# Altium footprint library logics.PcbLib: 3 footprints
Each footprint in its own frame and in the unit in brackets; x right, y up, seen from the top. Pads: shape width x height; smd on the part's side, far side on the other; paste and mask are expansions set on the pad; w line width, h text height; cw(c..) or ccw(c..) is an arc to the next point about the centre after c.
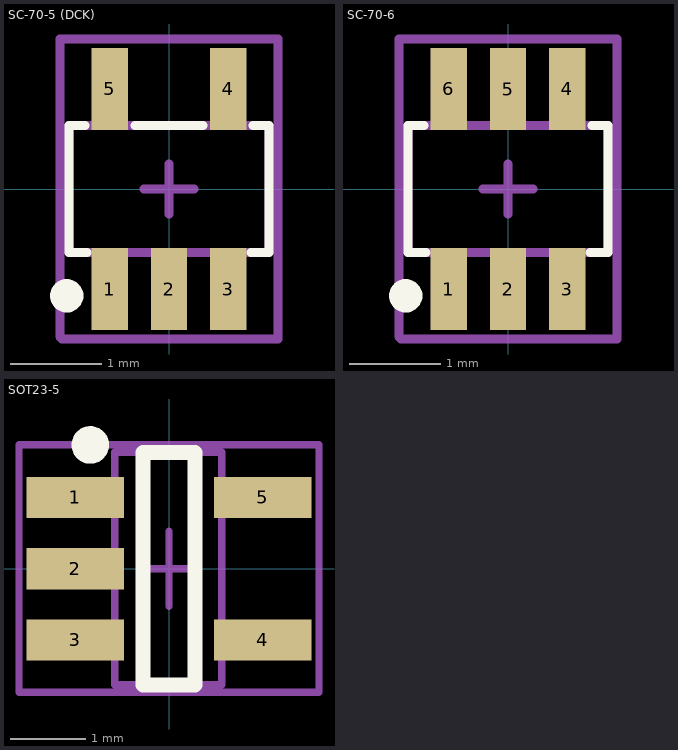
[diagram p0: the footprints below, top view; thin cyan lines are the x and y axes]

## SC-70-5 (DCK) [mm]
pads (5):
  rect 0.4x0.9 smd mask+0.05: 1(-0.65,-1.1) 2(0,-1.1) 3(0.65,-1.1) 4(0.65,1.1) 5(-0.65,1.1)
Top Overlay:
  circle w0.254: c-1.125,-1.175 r0.056
  lines w0.1: -0.925,0.7 -1.1,0.7 -1.1,-0.7 -0.9,-0.7 ; -0.375,0.7 0.375,0.7 ; 0.9,-0.7 1.1,-0.7 1.1,0.7 0.925,0.7
Mechanical 13:
  lines w0.1: -1.1,-0.7 1.1,-0.7 1.1,0.7 -1.1,0.7 -1.1,-0.7
Mechanical 15:
  lines w0.1: -0.275,0 0.275,0 ; 0,-0.275 0,0.275 ; -1.2,-1.625 -1.2,1.65 1.2,1.65 1.2,-1.65 -1.175,-1.65 -1.2,-1.625
3D body: height 1.1, standoff 0, extent -1.1,-0.7 1.1,0.7

## SC-70-6 [mm]
pads (6):
  rect 0.4x0.9 smd mask+0.05: 1(-0.65,-1.1) 2(0,-1.1) 3(0.65,-1.1) 4(0.65,1.1) 5(0,1.1) 6(-0.65,1.1)
Top Overlay:
  circle w0.254: c-1.125,-1.175 r0.056
  lines w0.1: -0.925,0.7 -1.1,0.7 -1.1,-0.7 -0.9,-0.7 ; 0.9,-0.7 1.1,-0.7 1.1,0.7 0.925,0.7
Mechanical 13:
  lines w0.1: -1.1,-0.7 -1.1,0.7 1.1,0.7 1.1,-0.7 -1.1,-0.7
Mechanical 15:
  lines w0.1: -0.275,0 0.275,0 ; 0,-0.275 0,0.275 ; -1.2,-1.625 -1.175,-1.65 1.2,-1.65 1.2,1.65 -1.2,1.65 -1.2,-1.625
3D body: height 1.1, standoff 0, extent -1.1,-0.7 1.1,0.7

## SOT23-5 [mm] "SOT23, 5-Leads, Body 2.9x1.6mm, Pitch 0.95mm, Lead Span 2.8mm, IPC High Density"
height 1.45
pads (5):
  rect 1.3x0.55 smd: 1(-1.25,0.95) 2(-1.25,0) 3(-1.25,-0.95) 4(1.25,-0.95) 5(1.25,0.95)
Top Overlay:
  circle w0.25: c-1.05,1.65 r0.125
  lines w0.2: -0.35,-1.55 -0.35,1.55 0.35,1.55 0.35,-1.55 -0.35,-1.55
Mechanical 13:
  lines w0.1: -0.725,-1.55 0.7,-1.55 0.7,1.55 -0.725,1.55 -0.725,-1.55
Mechanical 15:
  lines w0.1: -0.375,0 0.35,0 ; 0,-0.5 0,0.5 ; -2,-1.65 2,-1.65 2,1.65 -2,1.65 -2,-1.65
3D body: height 1.45, standoff 0, extent -0.675,-1.5 0.65,1.5